# Altium footprint library AMP Footprints.PcbLib: 903 footprints (part 37 of 58)
Each footprint in its own frame and in the unit in brackets; x right, y up, seen from the top. Pads: shape width x height; smd on the part's side, far side on the other; paste and mask are expansions set on the pad; w line width, h text height; cw(c..) or ccw(c..) is an arc to the next point about the centre after c.
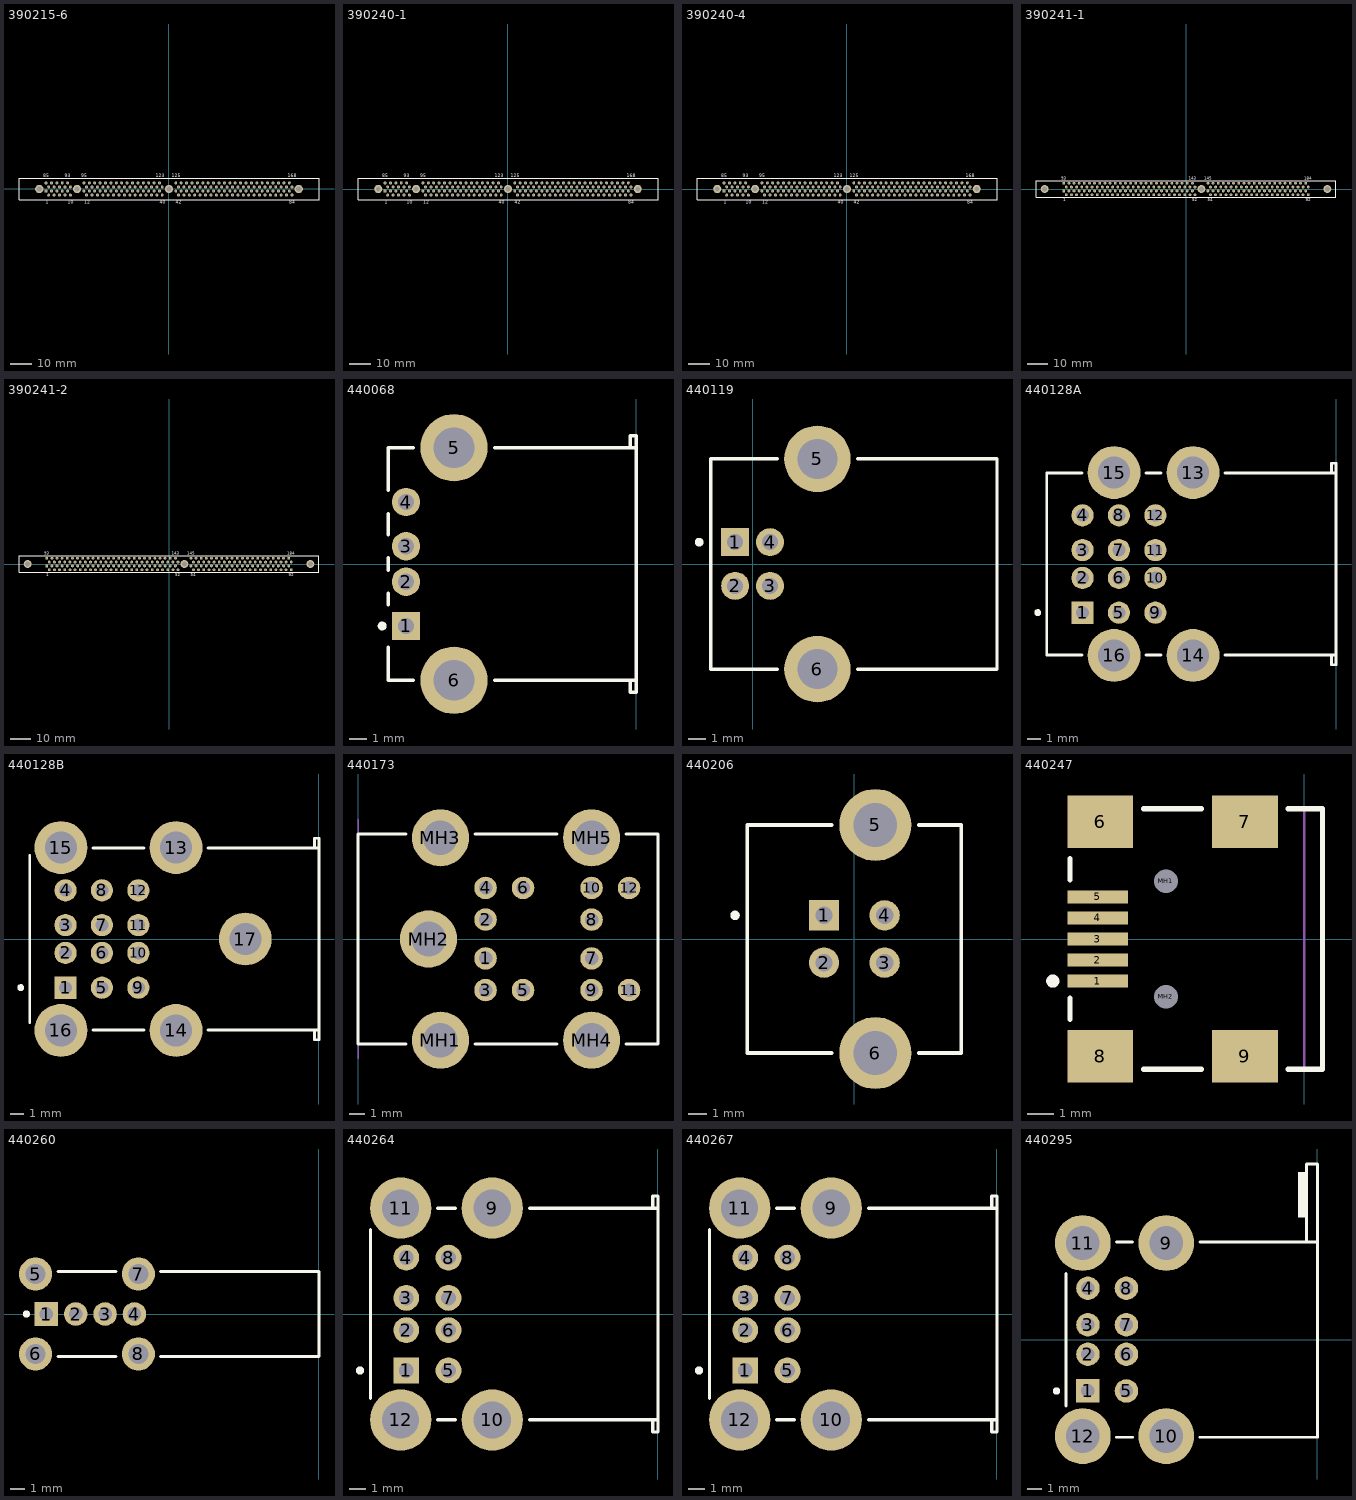
[diagram p36: the footprints below, top view; thin cyan lines are the x and y axes]

## 390215-6 [mm] "Connector; DIMM II; 168 Position; Vertical"
height 23.77
pads (172):
  rect 1.4x1.4 hole 0.81: 1(-57.78,-0.95)
  round 1.4 hole 0.81: 2(-56.51,-2.85) 3(-55.24,-0.95) 4(-53.97,-2.85) 5(-52.7,-0.95) 6(-51.43,-2.85) 7(-50.16,-0.95) 8(-48.89,-2.85) 9(-47.62,-0.95) 10(-46.35,-2.85) 11(-40,-0.95) 12(-38.73,-2.85) 13(-37.46,-0.95) 14(-36.19,-2.85) 15(-34.92,-0.95) 16(-33.65,-2.85) 17(-32.38,-0.95) 18(-31.11,-2.85) 19(-29.84,-0.95) 20(-28.57,-2.85) 21(-27.3,-0.95) 22(-26.03,-2.85) 23(-24.76,-0.95) 24(-23.49,-2.85) 25(-22.22,-0.95) 26(-20.95,-2.85) 27(-19.68,-0.95) 28(-18.41,-2.85) 29(-17.14,-0.95) 30(-15.87,-2.85) 31(-14.6,-0.95) 32(-13.33,-2.85) 33(-12.06,-0.95) 34(-10.79,-2.85) 35(-9.52,-0.95) 36(-8.25,-2.85) 37(-6.98,-0.95) 38(-5.71,-2.85) 39(-4.44,-0.95) 40(-3.17,-2.85) 41(3.18,-0.95) 42(4.45,-2.85) 43(5.72,-0.95) 44(6.99,-2.85) 45(8.26,-0.95) 46(9.53,-2.85) 47(10.8,-0.95) 48(12.07,-2.85) 49(13.34,-0.95) 50(14.61,-2.85) 51(15.88,-0.95) 52(17.15,-2.85) 53(18.42,-0.95) 54(19.69,-2.85) 55(20.96,-0.95) 56(22.23,-2.85) 57(23.5,-0.95) 58(24.77,-2.85) 59(26.04,-0.95) 60(27.31,-2.85) 61(28.58,-0.95) 62(29.85,-2.85) 63(31.12,-0.95) 64(32.39,-2.85) 65(33.66,-0.95) 66(34.93,-2.85) 67(36.2,-0.95) 68(37.47,-2.85) 69(38.74,-0.95) 70(40.01,-2.85) 71(41.28,-0.95) 72(42.55,-2.85) 73(43.82,-0.95) 74(45.09,-2.85) 75(46.36,-0.95) 76(47.63,-2.85) 77(48.9,-0.95) 78(50.17,-2.85) 79(51.44,-0.95) 80(52.71,-2.85) 81(53.98,-0.95) 82(55.25,-2.85) 83(56.52,-0.95) 84(57.79,-2.85) 85(-57.78,2.85) 86(-56.51,0.95) 87(-55.24,2.85) 88(-53.97,0.95) 89(-52.7,2.85) 90(-51.43,0.95) 91(-50.16,2.85) 92(-48.89,0.95) 93(-47.62,2.85) 94(-46.35,0.95) 95(-40,2.85) 96(-38.73,0.95) 97(-37.46,2.85) 98(-36.19,0.95) 99(-34.92,2.85) 100(-33.65,0.95) 101(-32.38,2.85) 102(-31.11,0.95) 103(-29.84,2.85) 104(-28.57,0.95) 105(-27.3,2.85) 106(-26.03,0.95) 107(-24.76,2.85) 108(-23.49,0.95) 109(-22.22,2.85) 110(-20.95,0.95) 111(-19.68,2.85) 112(-18.41,0.95) 113(-17.14,2.85) 114(-15.87,0.95) 115(-14.6,2.85) 116(-13.33,0.95) 117(-12.06,2.85) 118(-10.79,0.95) 119(-9.52,2.85) 120(-8.25,0.95) 121(-6.98,2.85) 122(-5.71,0.95) 123(-4.44,2.85) 124(-3.17,0.95) 125(3.18,2.85) 126(4.45,0.95) 127(5.72,2.85) 128(6.99,0.95) 129(8.26,2.85) 130(9.53,0.95) 131(10.8,2.85) 132(12.07,0.95) 133(13.34,2.85) 134(14.61,0.95) 135(15.88,2.85) 136(17.15,0.95) 137(18.42,2.85) 138(19.69,0.95) 139(20.96,2.85) 140(22.23,0.95) 141(23.5,2.85) 142(24.77,0.95) 143(26.04,2.85) 144(27.31,0.95) 145(28.58,2.85) 146(29.85,0.95) 147(31.12,2.85) 148(32.39,0.95) 149(33.66,2.85) 150(34.93,0.95) 151(36.2,2.85) 152(37.47,0.95) 153(38.74,2.85) 154(40.01,0.95) 155(41.28,2.85) 156(42.55,0.95) 157(43.82,2.85) 158(45.09,0.95) 159(46.36,2.85) 160(47.63,0.95) 161(48.9,2.85) 162(50.17,0.95) 163(51.44,2.85) 164(52.71,0.95) 165(53.98,2.85) 166(55.25,0.95) 167(56.52,2.85) 168(57.79,0.95)
  round 3.9 hole 2.44: 169(-60.96,0) 170(-43.18,0) 171(0.005,0) 172(60.96,0)
Top Overlay:
  lines w0.2: -70.485,-5 70.495,-5 70.495,5 -70.485,5 -70.485,-5
  text "95" at -41.25,5.475 h1.5
  text "12" at -39.855,-6.975 h1.5
  text "1" at -58.03,-6.975 h1.5
  text "85" at -59.03,5.475 h1.5
  text "10" at -47.475,-6.975 h1.5
  text "93" at -48.87,5.475 h1.5
  text "40" at -4.42,-6.975 h1.5
  text "42" at 3.2,-6.975 h1.5
  text "123" at -6.315,5.475 h1.5
  text "125" at 1.305,5.475 h1.5
  text "84" at 56.54,-6.975 h1.5
  text "168" at 55.915,5.475 h1.5

## 390240-1 [mm] "Connector; DIMM II; 168 Position; Vertical"
height 23.76
pads (172):
  rect 1.4x1.4 hole 0.81: 1(-57.78,-0.95)
  round 1.4 hole 0.81: 2(-56.51,-2.85) 3(-55.24,-0.95) 4(-53.97,-2.85) 5(-52.7,-0.95) 6(-51.43,-2.85) 7(-50.16,-0.95) 8(-48.89,-2.85) 9(-47.62,-0.95) 10(-46.35,-2.85) 11(-40,-0.95) 12(-38.73,-2.85) 13(-37.46,-0.95) 14(-36.19,-2.85) 15(-34.92,-0.95) 16(-33.65,-2.85) 17(-32.38,-0.95) 18(-31.11,-2.85) 19(-29.84,-0.95) 20(-28.57,-2.85) 21(-27.3,-0.95) 22(-26.03,-2.85) 23(-24.76,-0.95) 24(-23.49,-2.85) 25(-22.22,-0.95) 26(-20.95,-2.85) 27(-19.68,-0.95) 28(-18.41,-2.85) 29(-17.14,-0.95) 30(-15.87,-2.85) 31(-14.6,-0.95) 32(-13.33,-2.85) 33(-12.06,-0.95) 34(-10.79,-2.85) 35(-9.52,-0.95) 36(-8.25,-2.85) 37(-6.98,-0.95) 38(-5.71,-2.85) 39(-4.44,-0.95) 40(-3.17,-2.85) 41(3.18,-0.95) 42(4.45,-2.85) 43(5.72,-0.95) 44(6.99,-2.85) 45(8.26,-0.95) 46(9.53,-2.85) 47(10.8,-0.95) 48(12.07,-2.85) 49(13.34,-0.95) 50(14.61,-2.85) 51(15.88,-0.95) 52(17.15,-2.85) 53(18.42,-0.95) 54(19.69,-2.85) 55(20.96,-0.95) 56(22.23,-2.85) 57(23.5,-0.95) 58(24.77,-2.85) 59(26.04,-0.95) 60(27.31,-2.85) 61(28.58,-0.95) 62(29.85,-2.85) 63(31.12,-0.95) 64(32.39,-2.85) 65(33.66,-0.95) 66(34.93,-2.85) 67(36.2,-0.95) 68(37.47,-2.85) 69(38.74,-0.95) 70(40.01,-2.85) 71(41.28,-0.95) 72(42.55,-2.85) 73(43.82,-0.95) 74(45.09,-2.85) 75(46.36,-0.95) 76(47.63,-2.85) 77(48.9,-0.95) 78(50.17,-2.85) 79(51.44,-0.95) 80(52.71,-2.85) 81(53.98,-0.95) 82(55.25,-2.85) 83(56.52,-0.95) 84(57.79,-2.85) 85(-57.78,2.85) 86(-56.51,0.95) 87(-55.24,2.85) 88(-53.97,0.95) 89(-52.7,2.85) 90(-51.43,0.95) 91(-50.16,2.85) 92(-48.89,0.95) 93(-47.62,2.85) 94(-46.35,0.95) 95(-40,2.85) 96(-38.73,0.95) 97(-37.46,2.85) 98(-36.19,0.95) 99(-34.92,2.85) 100(-33.65,0.95) 101(-32.38,2.85) 102(-31.11,0.95) 103(-29.84,2.85) 104(-28.57,0.95) 105(-27.3,2.85) 106(-26.03,0.95) 107(-24.76,2.85) 108(-23.49,0.95) 109(-22.22,2.85) 110(-20.95,0.95) 111(-19.68,2.85) 112(-18.41,0.95) 113(-17.14,2.85) 114(-15.87,0.95) 115(-14.6,2.85) 116(-13.33,0.95) 117(-12.06,2.85) 118(-10.79,0.95) 119(-9.52,2.85) 120(-8.25,0.95) 121(-6.98,2.85) 122(-5.71,0.95) 123(-4.44,2.85) 124(-3.17,0.95) 125(3.18,2.85) 126(4.45,0.95) 127(5.72,2.85) 128(6.99,0.95) 129(8.26,2.85) 130(9.53,0.95) 131(10.8,2.85) 132(12.07,0.95) 133(13.34,2.85) 134(14.61,0.95) 135(15.88,2.85) 136(17.15,0.95) 137(18.42,2.85) 138(19.69,0.95) 139(20.96,2.85) 140(22.23,0.95) 141(23.5,2.85) 142(24.77,0.95) 143(26.04,2.85) 144(27.31,0.95) 145(28.58,2.85) 146(29.85,0.95) 147(31.12,2.85) 148(32.39,0.95) 149(33.66,2.85) 150(34.93,0.95) 151(36.2,2.85) 152(37.47,0.95) 153(38.74,2.85) 154(40.01,0.95) 155(41.28,2.85) 156(42.55,0.95) 157(43.82,2.85) 158(45.09,0.95) 159(46.36,2.85) 160(47.63,0.95) 161(48.9,2.85) 162(50.17,0.95) 163(51.44,2.85) 164(52.71,0.95) 165(53.98,2.85) 166(55.25,0.95) 167(56.52,2.85) 168(57.79,0.95)
  round 3.8 hole 2.29: 169(-60.96,0) 170(-43.18,0) 171(0.005,0) 172(60.96,0)
Top Overlay:
  lines w0.2: -70.485,-5 -70.485,5 70.495,5 70.495,-5 -70.485,-5
  text "168" at 55.915,5.475 h1.5
  text "84" at 56.54,-6.975 h1.5
  text "125" at 1.305,5.475 h1.5
  text "123" at -6.315,5.475 h1.5
  text "42" at 3.2,-6.975 h1.5
  text "40" at -4.42,-6.975 h1.5
  text "93" at -48.87,5.475 h1.5
  text "10" at -47.475,-6.975 h1.5
  text "85" at -59.03,5.475 h1.5
  text "1" at -58.03,-6.975 h1.5
  text "12" at -39.855,-6.975 h1.5
  text "95" at -41.25,5.475 h1.5

## 390240-4 [mm] "Connector; DIMM II; 168 Position; Vertical"
height 23.76
pads (172):
  rect 1.4x1.4 hole 0.81: 1(-57.78,-0.95)
  round 1.4 hole 0.81: 2(-56.51,-2.85) 3(-55.24,-0.95) 4(-53.97,-2.85) 5(-52.7,-0.95) 6(-51.43,-2.85) 7(-50.16,-0.95) 8(-48.89,-2.85) 9(-47.62,-0.95) 10(-46.35,-2.85) 11(-40,-0.95) 12(-38.73,-2.85) 13(-37.46,-0.95) 14(-36.19,-2.85) 15(-34.92,-0.95) 16(-33.65,-2.85) 17(-32.38,-0.95) 18(-31.11,-2.85) 19(-29.84,-0.95) 20(-28.57,-2.85) 21(-27.3,-0.95) 22(-26.03,-2.85) 23(-24.76,-0.95) 24(-23.49,-2.85) 25(-22.22,-0.95) 26(-20.95,-2.85) 27(-19.68,-0.95) 28(-18.41,-2.85) 29(-17.14,-0.95) 30(-15.87,-2.85) 31(-14.6,-0.95) 32(-13.33,-2.85) 33(-12.06,-0.95) 34(-10.79,-2.85) 35(-9.52,-0.95) 36(-8.25,-2.85) 37(-6.98,-0.95) 38(-5.71,-2.85) 39(-4.44,-0.95) 40(-3.17,-2.85) 41(3.18,-0.95) 42(4.45,-2.85) 43(5.72,-0.95) 44(6.99,-2.85) 45(8.26,-0.95) 46(9.53,-2.85) 47(10.8,-0.95) 48(12.07,-2.85) 49(13.34,-0.95) 50(14.61,-2.85) 51(15.88,-0.95) 52(17.15,-2.85) 53(18.42,-0.95) 54(19.69,-2.85) 55(20.96,-0.95) 56(22.23,-2.85) 57(23.5,-0.95) 58(24.77,-2.85) 59(26.04,-0.95) 60(27.31,-2.85) 61(28.58,-0.95) 62(29.85,-2.85) 63(31.12,-0.95) 64(32.39,-2.85) 65(33.66,-0.95) 66(34.93,-2.85) 67(36.2,-0.95) 68(37.47,-2.85) 69(38.74,-0.95) 70(40.01,-2.85) 71(41.28,-0.95) 72(42.55,-2.85) 73(43.82,-0.95) 74(45.09,-2.85) 75(46.36,-0.95) 76(47.63,-2.85) 77(48.9,-0.95) 78(50.17,-2.85) 79(51.44,-0.95) 80(52.71,-2.85) 81(53.98,-0.95) 82(55.25,-2.85) 83(56.52,-0.95) 84(57.79,-2.85) 85(-57.78,2.85) 86(-56.51,0.95) 87(-55.24,2.85) 88(-53.97,0.95) 89(-52.7,2.85) 90(-51.43,0.95) 91(-50.16,2.85) 92(-48.89,0.95) 93(-47.62,2.85) 94(-46.35,0.95) 95(-40,2.85) 96(-38.73,0.95) 97(-37.46,2.85) 98(-36.19,0.95) 99(-34.92,2.85) 100(-33.65,0.95) 101(-32.38,2.85) 102(-31.11,0.95) 103(-29.84,2.85) 104(-28.57,0.95) 105(-27.3,2.85) 106(-26.03,0.95) 107(-24.76,2.85) 108(-23.49,0.95) 109(-22.22,2.85) 110(-20.95,0.95) 111(-19.68,2.85) 112(-18.41,0.95) 113(-17.14,2.85) 114(-15.87,0.95) 115(-14.6,2.85) 116(-13.33,0.95) 117(-12.06,2.85) 118(-10.79,0.95) 119(-9.52,2.85) 120(-8.25,0.95) 121(-6.98,2.85) 122(-5.71,0.95) 123(-4.44,2.85) 124(-3.17,0.95) 125(3.18,2.85) 126(4.45,0.95) 127(5.72,2.85) 128(6.99,0.95) 129(8.26,2.85) 130(9.53,0.95) 131(10.8,2.85) 132(12.07,0.95) 133(13.34,2.85) 134(14.61,0.95) 135(15.88,2.85) 136(17.15,0.95) 137(18.42,2.85) 138(19.69,0.95) 139(20.96,2.85) 140(22.23,0.95) 141(23.5,2.85) 142(24.77,0.95) 143(26.04,2.85) 144(27.31,0.95) 145(28.58,2.85) 146(29.85,0.95) 147(31.12,2.85) 148(32.39,0.95) 149(33.66,2.85) 150(34.93,0.95) 151(36.2,2.85) 152(37.47,0.95) 153(38.74,2.85) 154(40.01,0.95) 155(41.28,2.85) 156(42.55,0.95) 157(43.82,2.85) 158(45.09,0.95) 159(46.36,2.85) 160(47.63,0.95) 161(48.9,2.85) 162(50.17,0.95) 163(51.44,2.85) 164(52.71,0.95) 165(53.98,2.85) 166(55.25,0.95) 167(56.52,2.85) 168(57.79,0.95)
  round 3.8 hole 2.29: 169(-60.96,0) 170(-43.18,0) 171(0.005,0) 172(60.96,0)
Top Overlay:
  lines w0.2: -70.485,-5 -70.485,5 70.495,5 70.495,-5 -70.485,-5
  text "168" at 55.915,5.475 h1.5
  text "84" at 56.54,-6.975 h1.5
  text "125" at 1.305,5.475 h1.5
  text "123" at -6.315,5.475 h1.5
  text "42" at 3.2,-6.975 h1.5
  text "40" at -4.42,-6.975 h1.5
  text "93" at -48.87,5.475 h1.5
  text "10" at -47.475,-6.975 h1.5
  text "85" at -59.03,5.475 h1.5
  text "1" at -58.03,-6.975 h1.5
  text "12" at -39.855,-6.975 h1.5
  text "95" at -41.25,5.475 h1.5

## 390241-1 [mm] "Connector; DIMM II; 184 Position; Vertical"
height 23.76
pads (187):
  rect 1.41x1.41 hole 0.81: 1(-60.325,-0.95)
  round 1.41 hole 0.81: 2(-59.055,-2.85) 3(-57.785,-0.95) 4(-56.515,-2.85) 5(-55.245,-0.95) 6(-53.975,-2.85) 7(-52.705,-0.95) 8(-51.435,-2.85) 9(-50.165,-0.95) 10(-48.895,-2.85) 11(-47.625,-0.95) 12(-46.355,-2.85) 13(-45.085,-0.95) 14(-43.815,-2.85) 15(-42.545,-0.95) 16(-41.275,-2.85) 17(-40.005,-0.95) 18(-38.735,-2.85) 19(-37.465,-0.95) 20(-36.195,-2.85) 21(-34.925,-0.95) 22(-33.655,-2.85) 23(-32.385,-0.95) 24(-31.115,-2.85) 25(-29.845,-0.95) 26(-28.575,-2.85) 27(-27.305,-0.95) 28(-26.035,-2.85) 29(-24.765,-0.95) 30(-23.495,-2.85) 31(-22.225,-0.95) 32(-20.955,-2.85) 33(-19.685,-0.95) 34(-18.415,-2.85) 35(-17.145,-0.95) 36(-15.875,-2.85) 37(-14.605,-0.95) 38(-13.335,-2.85) 39(-12.065,-0.95) 40(-10.795,-2.85) 41(-9.525,-0.95) 42(-8.255,-2.85) 43(-6.985,-0.95) 44(-5.715,-2.85) 45(-4.445,-0.95) 46(-3.175,-2.85) 47(-1.905,-0.95) 48(-0.635,-2.85) 49(0.635,-0.95) 50(1.905,-2.85) 51(3.175,-0.95) 52(4.445,-2.85) 53(10.795,-0.95) 54(12.065,-2.85) 55(13.335,-0.95) 56(14.605,-2.85) 57(15.875,-0.95) 58(17.145,-2.85) 59(18.415,-0.95) 60(19.685,-2.85) 61(20.955,-0.95) 62(22.225,-2.85) 63(23.495,-0.95) 64(24.765,-2.85) 65(26.035,-0.95) 66(27.305,-2.85) 67(28.575,-0.95) 68(29.845,-2.85) 69(31.115,-0.95) 70(32.385,-2.85) 71(33.655,-0.95) 72(34.925,-2.85) 73(36.195,-0.95) 74(37.465,-2.85) 75(38.735,-0.95) 76(40.005,-2.85) 77(41.275,-0.95) 78(42.545,-2.85) 79(43.815,-0.95) 80(45.085,-2.85) 81(46.355,-0.95) 82(47.625,-2.85) 83(48.895,-0.95) 84(50.165,-2.85) 85(51.435,-0.95) 86(52.705,-2.85) 87(53.975,-0.95) 88(55.245,-2.85) 89(56.515,-0.95) 90(57.785,-2.85) 91(59.055,-0.95) 92(60.325,-2.85) 93(-60.325,2.85) 94(-59.055,0.95) 95(-57.785,2.85) 96(-56.515,0.95) 97(-55.245,2.85) 98(-53.975,0.95) 99(-52.705,2.85) 100(-51.435,0.95) 101(-50.165,2.85) 102(-48.895,0.95) 103(-47.625,2.85) 104(-46.355,0.95) 105(-45.085,2.85) 106(-43.815,0.95) 107(-42.545,2.85) 108(-41.275,0.95) 109(-40.005,2.85) 110(-38.735,0.95) 111(-37.465,2.85) 112(-36.195,0.95) 113(-34.925,2.85) 114(-33.655,0.95) 115(-32.385,2.85) 116(-31.115,0.95) 117(-29.845,2.85) 118(-28.575,0.95) 119(-27.305,2.85) 120(-26.035,0.95) 121(-24.765,2.85) 122(-23.495,0.95) 123(-22.225,2.85) 124(-20.955,0.95) 125(-19.685,2.85) 126(-18.415,0.95) 127(-17.145,2.85) 128(-15.875,0.95) 129(-14.605,2.85) 130(-13.335,0.95) 131(-12.065,2.85) 132(-10.795,0.95) 133(-9.525,2.85) 134(-8.255,0.95) 135(-6.985,2.85) 136(-5.715,0.95) 137(-4.445,2.85) 138(-3.175,0.95) 139(-1.905,2.85) 140(-0.635,0.95) 141(0.635,2.85) 142(1.905,0.95) 143(3.175,2.85) 144(4.445,0.95) 145(10.795,2.85) 146(12.065,0.95) 147(13.335,2.85) 148(14.605,0.95) 149(15.875,2.85) 150(17.145,0.95) 151(18.415,2.85) 152(19.685,0.95) 153(20.955,2.85) 154(22.225,0.95) 155(23.495,2.85) 156(24.765,0.95) 157(26.035,2.85) 158(27.305,0.95) 159(28.575,2.85) 160(29.845,0.95) 161(31.115,2.85) 162(32.385,0.95) 163(33.655,2.85) 164(34.925,0.95) 165(36.195,2.85) 166(37.465,0.95) 167(38.735,2.85) 168(40.005,0.95) 169(41.275,2.85) 170(42.545,0.95) 171(43.815,2.85) 172(45.085,0.95) 173(46.355,2.85) 174(47.625,0.95) 175(48.895,2.85) 176(50.165,0.95) 177(51.435,2.85) 178(52.705,0.95) 179(53.975,2.85) 180(55.245,0.95) 181(56.515,2.85) 182(57.785,0.95) 183(59.055,2.85) 184(60.325,0.95)
  round 3.9 hole 2.44: 185(-69.735,0) 186(7.605,0) 187(69.735,0)
Top Overlay:
  lines w0.2: -74,-4 74,-4 74,4 -74,4 -74,-4
  text "143" at 1.3,4.475 h1.5
  text "93" at -61.575,4.475 h1.5
  text "184" at 58.45,4.475 h1.5
  text "92" at 59.075,-5.975 h1.5
  text "145" at 8.92,4.475 h1.5
  text "54" at 10.815,-5.975 h1.5
  text "52" at 3.195,-5.975 h1.5
  text "1" at -60.575,-5.975 h1.5

## 390241-2 [mm] "Connector; DIMM II; 184 Position; Vertical"
height 23.76
pads (187):
  rect 1.41x1.41 hole 0.81: 1(-60.325,-0.95)
  round 1.41 hole 0.81: 2(-59.055,-2.85) 3(-57.785,-0.95) 4(-56.515,-2.85) 5(-55.245,-0.95) 6(-53.975,-2.85) 7(-52.705,-0.95) 8(-51.435,-2.85) 9(-50.165,-0.95) 10(-48.895,-2.85) 11(-47.625,-0.95) 12(-46.355,-2.85) 13(-45.085,-0.95) 14(-43.815,-2.85) 15(-42.545,-0.95) 16(-41.275,-2.85) 17(-40.005,-0.95) 18(-38.735,-2.85) 19(-37.465,-0.95) 20(-36.195,-2.85) 21(-34.925,-0.95) 22(-33.655,-2.85) 23(-32.385,-0.95) 24(-31.115,-2.85) 25(-29.845,-0.95) 26(-28.575,-2.85) 27(-27.305,-0.95) 28(-26.035,-2.85) 29(-24.765,-0.95) 30(-23.495,-2.85) 31(-22.225,-0.95) 32(-20.955,-2.85) 33(-19.685,-0.95) 34(-18.415,-2.85) 35(-17.145,-0.95) 36(-15.875,-2.85) 37(-14.605,-0.95) 38(-13.335,-2.85) 39(-12.065,-0.95) 40(-10.795,-2.85) 41(-9.525,-0.95) 42(-8.255,-2.85) 43(-6.985,-0.95) 44(-5.715,-2.85) 45(-4.445,-0.95) 46(-3.175,-2.85) 47(-1.905,-0.95) 48(-0.635,-2.85) 49(0.635,-0.95) 50(1.905,-2.85) 51(3.175,-0.95) 52(4.445,-2.85) 53(10.795,-0.95) 54(12.065,-2.85) 55(13.335,-0.95) 56(14.605,-2.85) 57(15.875,-0.95) 58(17.145,-2.85) 59(18.415,-0.95) 60(19.685,-2.85) 61(20.955,-0.95) 62(22.225,-2.85) 63(23.495,-0.95) 64(24.765,-2.85) 65(26.035,-0.95) 66(27.305,-2.85) 67(28.575,-0.95) 68(29.845,-2.85) 69(31.115,-0.95) 70(32.385,-2.85) 71(33.655,-0.95) 72(34.925,-2.85) 73(36.195,-0.95) 74(37.465,-2.85) 75(38.735,-0.95) 76(40.005,-2.85) 77(41.275,-0.95) 78(42.545,-2.85) 79(43.815,-0.95) 80(45.085,-2.85) 81(46.355,-0.95) 82(47.625,-2.85) 83(48.895,-0.95) 84(50.165,-2.85) 85(51.435,-0.95) 86(52.705,-2.85) 87(53.975,-0.95) 88(55.245,-2.85) 89(56.515,-0.95) 90(57.785,-2.85) 91(59.055,-0.95) 92(60.325,-2.85) 93(-60.325,2.85) 94(-59.055,0.95) 95(-57.785,2.85) 96(-56.515,0.95) 97(-55.245,2.85) 98(-53.975,0.95) 99(-52.705,2.85) 100(-51.435,0.95) 101(-50.165,2.85) 102(-48.895,0.95) 103(-47.625,2.85) 104(-46.355,0.95) 105(-45.085,2.85) 106(-43.815,0.95) 107(-42.545,2.85) 108(-41.275,0.95) 109(-40.005,2.85) 110(-38.735,0.95) 111(-37.465,2.85) 112(-36.195,0.95) 113(-34.925,2.85) 114(-33.655,0.95) 115(-32.385,2.85) 116(-31.115,0.95) 117(-29.845,2.85) 118(-28.575,0.95) 119(-27.305,2.85) 120(-26.035,0.95) 121(-24.765,2.85) 122(-23.495,0.95) 123(-22.225,2.85) 124(-20.955,0.95) 125(-19.685,2.85) 126(-18.415,0.95) 127(-17.145,2.85) 128(-15.875,0.95) 129(-14.605,2.85) 130(-13.335,0.95) 131(-12.065,2.85) 132(-10.795,0.95) 133(-9.525,2.85) 134(-8.255,0.95) 135(-6.985,2.85) 136(-5.715,0.95) 137(-4.445,2.85) 138(-3.175,0.95) 139(-1.905,2.85) 140(-0.635,0.95) 141(0.635,2.85) 142(1.905,0.95) 143(3.175,2.85) 144(4.445,0.95) 145(10.795,2.85) 146(12.065,0.95) 147(13.335,2.85) 148(14.605,0.95) 149(15.875,2.85) 150(17.145,0.95) 151(18.415,2.85) 152(19.685,0.95) 153(20.955,2.85) 154(22.225,0.95) 155(23.495,2.85) 156(24.765,0.95) 157(26.035,2.85) 158(27.305,0.95) 159(28.575,2.85) 160(29.845,0.95) 161(31.115,2.85) 162(32.385,0.95) 163(33.655,2.85) 164(34.925,0.95) 165(36.195,2.85) 166(37.465,0.95) 167(38.735,2.85) 168(40.005,0.95) 169(41.275,2.85) 170(42.545,0.95) 171(43.815,2.85) 172(45.085,0.95) 173(46.355,2.85) 174(47.625,0.95) 175(48.895,2.85) 176(50.165,0.95) 177(51.435,2.85) 178(52.705,0.95) 179(53.975,2.85) 180(55.245,0.95) 181(56.515,2.85) 182(57.785,0.95) 183(59.055,2.85) 184(60.325,0.95)
  round 3.9 hole 2.44: 185(-69.735,0) 186(7.605,0) 187(69.735,0)
Top Overlay:
  lines w0.2: -74,-4 74,-4 74,4 -74,4 -74,-4
  text "143" at 1.3,4.475 h1.5
  text "93" at -61.575,4.475 h1.5
  text "184" at 58.45,4.475 h1.5
  text "92" at 59.075,-5.975 h1.5
  text "145" at 8.92,4.475 h1.5
  text "54" at 10.815,-5.975 h1.5
  text "52" at 3.195,-5.975 h1.5
  text "1" at -60.575,-5.975 h1.5

## 440068 [mm] "Connector; USB1.1, Reverse Type, Thru-Hole; 4 Position; Right Angle"
height 6.95
pads (6):
  rect 1.6x1.6 hole 0.92: 1(-12.99,-3.5)
  round 1.6 hole 0.92: 2(-12.99,-1) 3(-12.99,1) 4(-12.99,3.5)
  round 3.8 hole 2.3: 5(-10.28,6.57) 6(-10.28,-6.57)
Top Overlay:
  circle w0.25: c-14.34,-3.5 r0.125
  lines w0.2: -14,-4.7 -14,-6.565 -12.58,-6.565 ; -14,-2.3 -14,-1.66 ; -14,-0.34 -14,0.34 ; -14,1.66 -14,2.84 ; -14,4.16 -14,6.565 -12.58,6.565 ; -7.98,-6.565 0,-6.565 ; -7.98,6.565 0,6.565 ; -0.32,-6.565 -0.32,-7.25 0,-7.25 0,-6.565 ; -0.32,6.565 -0.32,7.25 0,7.25 0,6.565 ; 0,-6.565 0,6.565

## 440119 [mm] "Connector; USB1.1, Type B, Thru-Hole; 4 Position; Right Angle"
height 11.05
pads (6):
  rect 1.6x1.6 hole 0.92: 1(-1,1.25)
  round 1.6 hole 0.92: 2(-1,-1.25) 3(1,-1.25) 4(1,1.25)
  round 3.8 hole 2.3: 5(3.71,6.02) 6(3.71,-6.02)
Top Overlay:
  circle w0.25: c-3.06,1.25 r0.125
  lines w0.2: 1.41,-6.02 -2.41,-6.02 -2.41,6.02 1.41,6.02 ; 6.01,-6.02 13.99,-6.02 13.99,6.02 6.01,6.02

## 440128A [mm] "Connector; USB1.1, Type A, Thru-Hole; 4x4x4 Position; Right Angle"
height 23.9
pads (16):
  rect 1.6x1.6 hole 0.92: 1(-18.23,-3.5)
  round 1.6 hole 0.92: 2(-18.23,-1) 3(-18.23,1) 4(-18.23,3.5) 5(-15.61,-3.5) 6(-15.61,-1) 7(-15.61,1) 8(-15.61,3.5) 9(-12.99,-3.5) 10(-12.99,-1) 11(-12.99,1) 12(-12.99,3.5)
  round 3.8 hole 2.3: 13(-10.28,6.57) 14(-10.28,-6.57) 15(-15.96,6.57) 16(-15.96,-6.57)
Top Overlay:
  circle w0.25: c-21.45,-3.5 r0.125
  lines w0.2: -18.26,-6.55 -20.8,-6.55 -20.8,6.55 -18.26,6.55 ; -13.66,-6.55 -12.58,-6.55 ; -13.66,6.55 -12.58,6.55 ; -7.98,-6.55 0,-6.55 ; -7.98,6.55 0,6.55 ; -0.32,-6.55 -0.32,-7.25 0,-7.25 0,-6.55 ; -0.32,6.55 -0.32,7.25 0,7.25 0,6.55 ; 0,-6.55 0,6.55

## 440128B [mm] "Connector; USB1.1, Type A, Thru-Hole; 4x4x4 Position; Right Angle"
height 23.9
pads (17):
  rect 1.6x1.6 hole 0.92: 1(-18.23,-3.5)
  round 1.6 hole 0.92: 2(-18.23,-1) 3(-18.23,1) 4(-18.23,3.5) 5(-15.61,-3.5) 6(-15.61,-1) 7(-15.61,1) 8(-15.61,3.5) 9(-12.99,-3.5) 10(-12.99,-1) 11(-12.99,1) 12(-12.99,3.5)
  round 3.8 hole 2.3: 13(-10.28,6.57) 14(-10.28,-6.57) 15(-18.56,6.57) 16(-18.56,-6.57) 17(-5.3,0)
Top Overlay:
  circle w0.25: c-21.45,-3.5 r0.125
  lines w0.2: -20.8,-6.03 -20.8,6.03 ; -16.26,-6.55 -12.58,-6.55 ; -16.26,6.55 -12.58,6.55 ; -7.98,-6.55 0,-6.55 ; -7.98,6.55 0,6.55 ; -0.32,-6.55 -0.32,-7.25 0,-7.25 0,-6.55 ; -0.32,6.55 -0.32,7.25 0,7.25 0,6.55 ; 0,-6.55 0,6.55

## 440173 [mm] "Connector; Circular DIN, Thru-Hole; 6x6 Position; Right Angle; Pitch 2.11/2.59 mm; Body 14 x 20 x 28.5 mm (WxTxH), Shielded"
height 28.5
pads (17):
  round 1.5 hole 0.9: 1(8.5,-1.295) 2(8.5,1.295) 3(8.5,-3.405) 4(8.5,3.405) 5(11,-3.405) 6(11,3.405) 7(15.57,-1.295) 8(15.57,1.295) 9(15.57,-3.405) 10(15.57,3.405) 11(18.07,-3.405) 12(18.07,3.405)
  round 3.8 hole 2.3: MH1(5.5,-6.75) MH2(4.7,0) MH3(5.5,6.75) MH4(15.57,-6.75) MH5(15.57,6.75)
Top Overlay:
  lines w0.2: 3.21,-7 0,-7 0,7 3.21,7 ; 7.81,-6.99 13.27,-6.99 ; 7.81,7 13.27,7 ; 17.87,-7 20,-7 20,7 17.87,7
Mechanical 1:
  lines w0.1: 0,-8 0,8
  text "PCB Edge" at 0.6,-6.7 h0.25

## 440206 [mm] "Connector; USB1.1, Type B, Thru-Hole; 4 Position; Vertical"
height 16
pads (6):
  rect 1.6x1.6 hole 0.92: 1(-1.6,1.25)
  round 1.6 hole 0.92: 2(-1.6,-1.25) 3(1.6,-1.25) 4(1.6,1.25)
  round 3.8 hole 2.3: 5(1.11,6.02) 6(1.11,-6.02)
Top Overlay:
  circle w0.25: c-6.3,1.25 r0.125
  lines w0.2: -1.19,-6.02 -5.65,-6.02 -5.65,6.02 -1.19,6.02 ; 3.41,-6.02 5.65,-6.02 5.65,6.02 3.41,6.02

## 440247 [mm] "Connector; USB2.0, Type B, SM; 5 Position; Right Angle"
height 3.9
pads (11):
  rect 2.3x0.5 smd: 1(-7.85,-1.6) 2(-7.85,-0.8) 3(-7.85,0) 4(-7.85,0.8) 5(-7.85,1.6)
  rect 2.5x2 smd: 6(-7.75,4.45) 7(-2.25,4.45) 8(-7.75,-4.45) 9(-2.25,-4.45)
  round 0.6 hole 0.9 unplated: MH1(-5.25,2.2) MH2(-5.25,-2.2)
Top Overlay:
  circle w0.25: c-9.55,-1.6 r0.125
  lines w0.2: -8.9,-3.05 -8.9,-2.25 ; -8.9,2.25 -8.9,3.05 ; -6.1,-4.95 -3.9,-4.95 ; -6.1,4.95 -3.9,4.95 ; -0.6,-4.95 0.7,-4.95 0.7,4.95 -0.6,4.95
Mechanical 1:
  lines w0.1: 0,-4.95 0,4.95
  text "PCB Edge" at 0.432,-4.036 h0.25

## 440260 [mm] "Connector; USB1.1, Type A, Thru-Hole; 4 Position; Right Angle"
height 13.83
pads (8):
  rect 1.6x1.6 hole 0.92: 1(-18.56,0)
  round 1.6 hole 0.92: 2(-16.56,0) 3(-14.56,0) 4(-12.56,0)
  round 2.25 hole 1.35: 5(-19.29,2.72) 6(-19.29,-2.72) 7(-12.29,2.72) 8(-12.29,-2.72)
Top Overlay:
  circle w0.25: c-19.91,0 r0.125
  lines w0.2: -17.773,-2.88 -13.807,-2.88 ; -17.773,2.88 -13.807,2.88 ; -10.773,-2.88 0,-2.88 0,2.88 -10.773,2.88

## 440264 [mm] "Connector; USB1.1, Type A, Thru-Hole; 4x4 Position; Right Angle"
height 15.82
pads (12):
  rect 1.6x1.6 hole 0.92: 1(-15.61,-3.5)
  round 1.6 hole 0.92: 2(-15.61,-1) 3(-15.61,1) 4(-15.61,3.5) 5(-12.99,-3.5) 6(-12.99,-1) 7(-12.99,1) 8(-12.99,3.5)
  round 3.8 hole 2.3: 9(-10.28,6.57) 10(-10.28,-6.57) 11(-15.96,6.57) 12(-15.96,-6.57)
Top Overlay:
  circle w0.25: c-18.48,-3.5 r0.125
  lines w0.2: -17.83,-5.23 -17.83,5.23 ; -13.66,-6.565 -12.58,-6.565 ; -13.66,6.565 -12.58,6.565 ; -7.97,-6.565 0,-6.565 ; -7.97,6.565 0,6.565 ; -0.32,-6.565 -0.32,-7.315 0,-7.315 0,-6.565 ; -0.32,6.565 -0.32,7.315 0,7.315 0,6.565 ; 0,-6.565 0,6.565

## 440267 [mm] "Connector; USB1.1, Type A, Thru-Hole; 4x4 Position; Right Angle"
height 15.82
pads (12):
  rect 1.6x1.6 hole 0.92: 1(-15.61,-3.5)
  round 1.6 hole 0.92: 2(-15.61,-1) 3(-15.61,1) 4(-15.61,3.5) 5(-12.99,-3.5) 6(-12.99,-1) 7(-12.99,1) 8(-12.99,3.5)
  round 3.8 hole 2.3: 9(-10.28,6.57) 10(-10.28,-6.57) 11(-15.96,6.57) 12(-15.96,-6.57)
Top Overlay:
  circle w0.25: c-18.48,-3.5 r0.125
  lines w0.2: -17.83,-5.23 -17.83,5.23 ; -13.66,-6.565 -12.58,-6.565 ; -13.66,6.565 -12.58,6.565 ; -7.97,-6.565 0,-6.565 ; -7.97,6.565 0,6.565 ; -0.32,-6.565 -0.32,-7.315 0,-7.315 0,-6.565 ; -0.32,6.565 -0.32,7.315 0,7.315 0,6.565 ; 0,-6.565 0,6.565

## 440295 [mm] "Connector; USB1.1, Type A, Thru-Hole; 4x4 Position; Right Angle"
height 15.47
pads (12):
  rect 1.6x1.6 hole 0.92: 1(-15.61,-3.5)
  round 1.6 hole 0.92: 2(-15.61,-1) 3(-15.61,1) 4(-15.61,3.5) 5(-12.99,-3.5) 6(-12.99,-1) 7(-12.99,1) 8(-12.99,3.5)
  round 3.8 hole 2.3: 9(-10.28,6.57) 10(-10.28,-6.57) 11(-15.96,6.57) 12(-15.96,-6.57)
Top Overlay:
  circle w0.25: c-17.75,-3.5 r0.125
  rectangle: -1.33,8.3 -0.75,11.42
  lines w0.2: -17.1,-4.51 -17.1,4.51 ; -13.68,-6.65 -12.58,-6.65 ; -13.66,6.65 -12.58,6.65 ; -7.97,-6.65 0,-6.65 0,6.65 ; -7.97,6.65 0,6.65 ; -0.75,6.65 -0.75,11.95 0,11.95 0,6.65